# EAGLE library part 74X3G34 (library kmod-testing)
Triple buffer
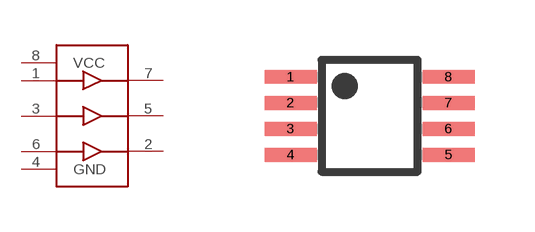
[diagram p5: symbol with the pads of TSSOP8; footprint TSSOP8]

Designator prefix IC

## 74X3G34  [TSSOP8]
1  1A
2  3Y
3  2A
4  GND
5  2Y
6  3A
7  1Y
8  VCC

## Footprint TSSOP8 (pad centres in mm)
TSSOP-8, 3.0mm width, 0.65mm-pitch Originally from ref-packages-longpad, narrowed considerably according to http://www.nxp.com/documents/reflow_soldering/sot505-2_fr.pdf and made pads even longer.
smd 1.3 x 0.35: 1 -1.975,0.975; 2 -1.975,0.325; 3 -1.975,-0.325; 4 -1.975,-0.975; 5 1.975,-0.975; 6 1.975,-0.325; 7 1.975,0.325; 8 1.975,0.975